# Altium footprint library T11.PcbLib: 36 footprints (part 2 of 3)
Each footprint in its own frame and in the unit in brackets; x right, y up, seen from the top. Pads: shape width x height; smd on the part's side, far side on the other; paste and mask are expansions set on the pad; w line width, h text height; cw(c..) or ccw(c..) is an arc to the next point about the centre after c.
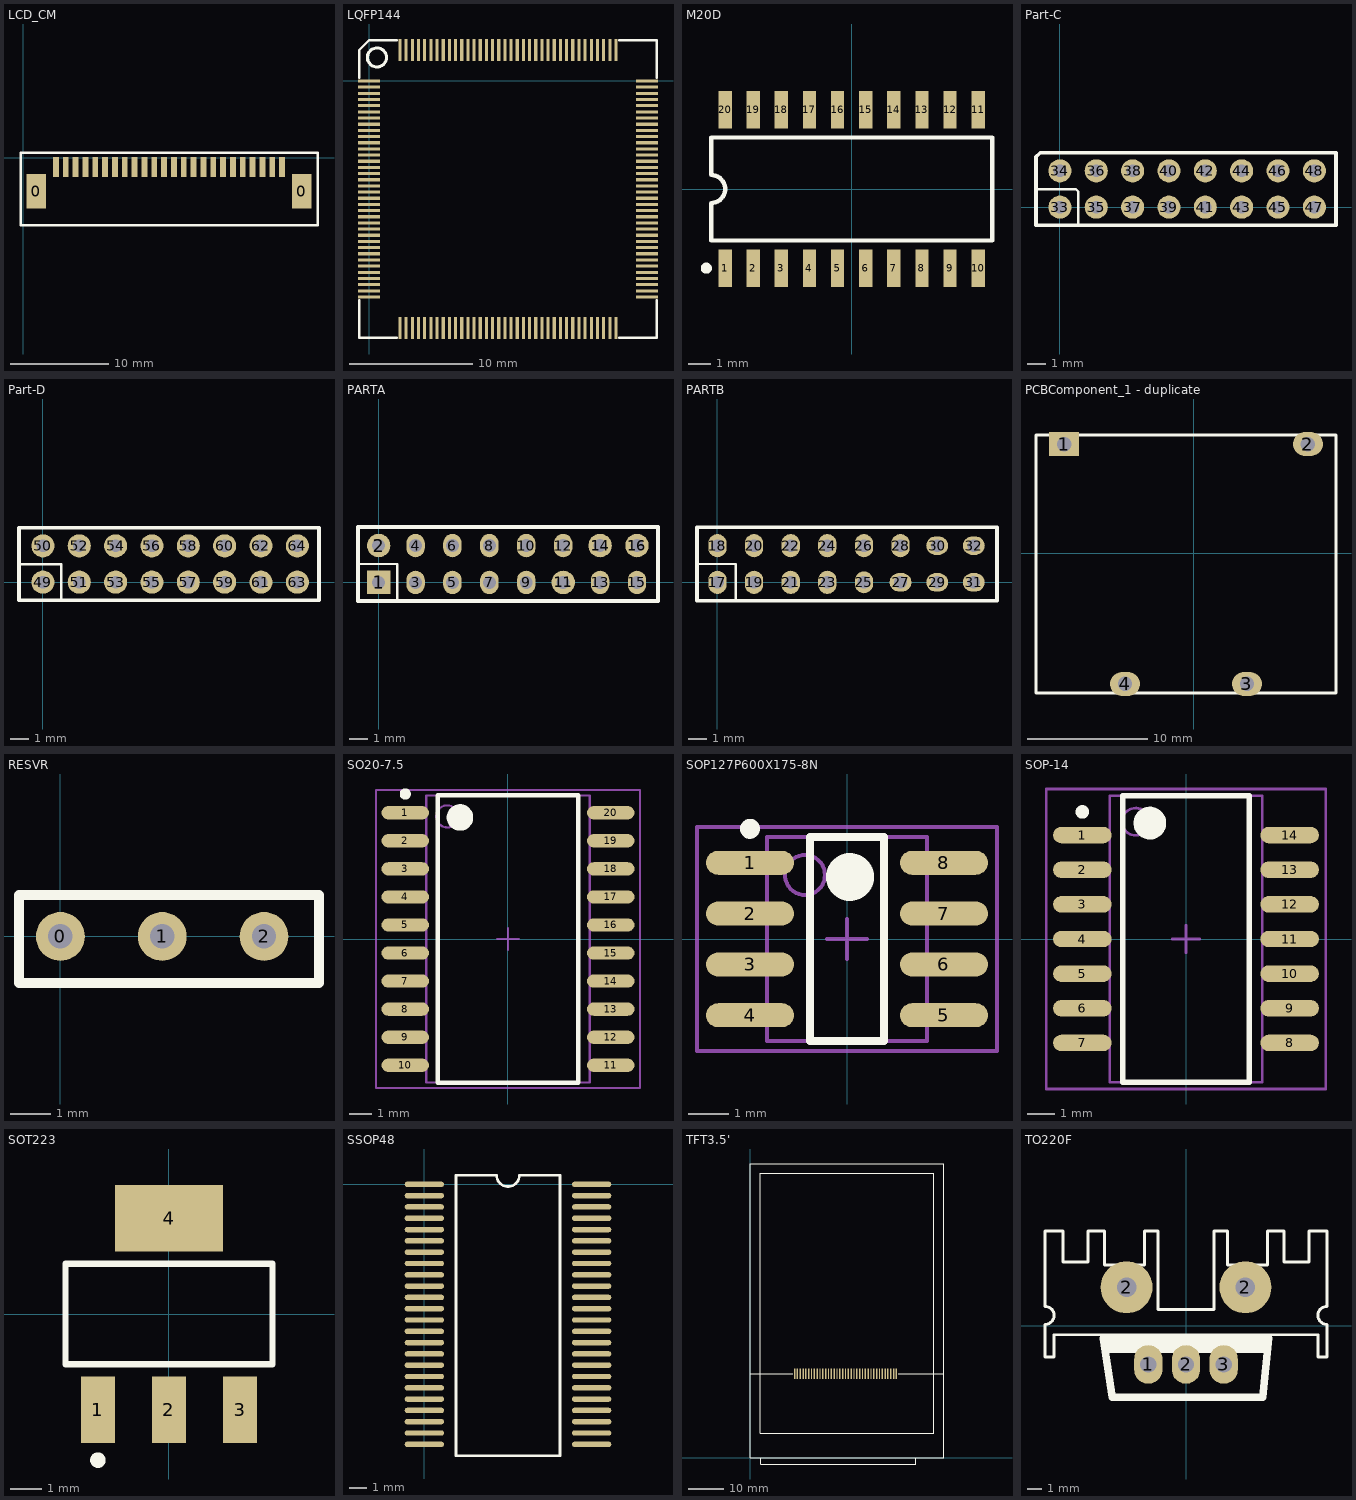
[diagram p1: the footprints below, top view; thin cyan lines are the x and y axes]

## LCD_CM [mm] "LCD_CM"
height 5.08
pads (26):
  rect 2x3.5 smd: 0(1.331,-3.41) 0(28.331,-3.41)
  rect 0.6x2 smd: 1(3.331,-0.957) 2(4.331,-0.957) 3(5.331,-0.957) 4(6.331,-0.957) 5(7.331,-0.957) 6(8.331,-0.957) 7(9.331,-0.957) 8(10.331,-0.957) 9(11.331,-0.957) 10(12.331,-0.957) 11(13.331,-0.957) 12(14.331,-0.957) 13(15.331,-0.957) 14(16.331,-0.957) 15(17.331,-0.957) 16(18.331,-0.957) 17(19.331,-0.957) 18(20.331,-0.957) 19(21.331,-0.957) 20(22.331,-0.957) 21(23.331,-0.957) 22(24.331,-0.957) 23(25.331,-0.957) 24(26.331,-0.957)
Top Overlay:
  lines w0.254: -0.254,-6.91 -0.254,0.508 29.972,0.508 29.972,-6.91 -0.254,-6.91

## LQFP144 [mm]
pads (144):
  rect 1.8x0.254 smd: 1(-0.009,0.001) 2(-0.009,-0.499) 3(-0.009,-0.999) 4(-0.009,-1.499) 5(-0.009,-1.999) 6(-0.009,-2.499) 7(-0.009,-2.999) 8(-0.009,-3.499) 9(-0.009,-3.999) 10(-0.009,-4.499) 11(-0.009,-4.999) 12(-0.009,-5.499) 13(-0.009,-5.999) 14(-0.009,-6.499) 15(-0.009,-6.999) 16(-0.009,-7.499) 17(-0.009,-7.999) 18(-0.009,-8.499) 19(-0.009,-8.999) 20(-0.009,-9.499) 21(-0.009,-9.999) 22(-0.009,-10.499) 23(-0.009,-10.999) 24(-0.009,-11.499) 25(-0.009,-11.999) 26(-0.009,-12.499) 27(-0.009,-12.999) 28(-0.009,-13.499) 29(-0.009,-13.999) 30(-0.009,-14.499) 31(-0.009,-14.999) 32(-0.009,-15.499) 33(-0.009,-15.999) 34(-0.009,-16.499) 35(-0.009,-16.999) 36(-0.009,-17.499) 73(22.491,-17.499) 74(22.491,-16.999) 75(22.491,-16.499) 76(22.491,-15.999) 77(22.491,-15.499) 78(22.491,-14.999) 79(22.491,-14.499) 80(22.491,-13.999) 81(22.491,-13.499) 82(22.491,-12.999) 83(22.491,-12.499) 84(22.491,-11.999) 85(22.491,-11.499) 86(22.491,-10.999) 87(22.491,-10.499) 88(22.491,-9.999) 89(22.491,-9.499) 90(22.491,-8.999) 91(22.491,-8.499) 92(22.491,-7.999) 93(22.491,-7.499) 94(22.491,-6.999) 95(22.491,-6.499) 96(22.491,-5.999) 97(22.491,-5.499) 98(22.491,-4.999) 99(22.491,-4.499) 100(22.491,-3.999) 101(22.491,-3.499) 102(22.491,-2.999) 103(22.491,-2.499) 104(22.491,-1.999) 105(22.491,-1.499) 106(22.491,-0.999) 107(22.491,-0.499) 108(22.491,0.001)
  rect 0.254x1.8 smd: 37(2.491,-19.999) 38(2.991,-19.999) 39(3.491,-19.999) 40(3.991,-19.999) 41(4.491,-19.999) 42(4.991,-19.999) 43(5.491,-19.999) 44(5.991,-19.999) 45(6.491,-19.999) 46(6.991,-19.999) 47(7.491,-19.999) 48(7.991,-19.999) 49(8.491,-19.999) 50(8.991,-19.999) 51(9.491,-19.999) 52(9.991,-19.999) 53(10.491,-19.999) 54(10.991,-19.999) 55(11.491,-19.999) 56(11.991,-19.999) 57(12.491,-19.999) 58(12.991,-19.999) 59(13.491,-19.999) 60(13.991,-19.999) 61(14.491,-19.999) 62(14.991,-19.999) 63(15.491,-19.999) 64(15.991,-19.999) 65(16.491,-19.999) 66(16.991,-19.999) 67(17.491,-19.999) 68(17.991,-19.999) 69(18.491,-19.999) 70(18.991,-19.999) 71(19.491,-19.999) 72(19.991,-19.999) 109(19.991,2.501) 110(19.491,2.501) 111(18.991,2.501) 112(18.491,2.501) 113(17.991,2.501) 114(17.491,2.501) 115(16.991,2.501) 116(16.491,2.501) 117(15.991,2.501) 118(15.491,2.501) 119(14.991,2.501) 120(14.491,2.501) 121(13.991,2.501) 122(13.491,2.501) 123(12.991,2.501) 124(12.491,2.501) 125(11.991,2.501) 126(11.491,2.501) 127(10.991,2.501) 128(10.491,2.501) 129(9.991,2.501) 130(9.491,2.501) 131(8.991,2.501) 132(8.491,2.501) 133(7.991,2.501) 134(7.491,2.501) 135(6.991,2.501) 136(6.491,2.501) 137(5.991,2.501) 138(5.491,2.501) 139(4.991,2.501) 140(4.491,2.501) 141(3.991,2.501) 142(3.491,2.501) 143(2.991,2.501) 144(2.491,2.501)
Top Overlay:
  circle w0.254: c0.624,1.905 r0.773
  lines w0.2: -0.809,-17.749 -0.809,-20.799 2.241,-20.799 ; -0.809,0.251 -0.809,2.501 -0.009,3.301 2.241,3.301 ; 20.241,-20.799 23.291,-20.799 23.291,-17.749 ; 20.241,3.301 23.291,3.301 23.291,0.251

## M20D [mm] "Small Outline; 20 Leads; Body Width 5.3 mm; Pitch 1.27 mm"
height 2.1
pads (20):
  rect 0.6x1.7 smd: 1(-5.715,-3.575) 2(-4.445,-3.575) 3(-3.175,-3.575) 4(-1.905,-3.575) 5(-0.635,-3.575) 6(0.635,-3.575) 7(1.905,-3.575) 8(3.175,-3.575) 9(4.445,-3.575) 10(5.715,-3.575) 11(5.715,3.575) 12(4.445,3.575) 13(3.175,3.575) 14(1.905,3.575) 15(0.635,3.575) 16(-0.635,3.575) 17(-1.905,3.575) 18(-3.175,3.575) 19(-4.445,3.575) 20(-5.715,3.575)
Top Overlay:
  circle w0.25: c-6.565,-3.575 r0.125
  lines w0.2: -6.35,-2.325 6.35,-2.325 6.35,2.325 -6.35,2.325 -6.35,0.635 cw(c-6.35,0) -6.35,-0.635 -6.35,-2.325

## Part-C [mm] "Part-C"
pads (16):
  round 1.27 hole 0.7: 33(0,0) 34(0,2) 35(2,0) 36(2,2) 37(4,0) 38(4,2) 39(6,0) 40(6,2) 41(8,0) 42(8,2) 43(10,0) 44(10,2) 45(12,0) 46(12,2) 47(14,0) 48(14,2)
Top Overlay:
  lines w0.127: -1.317,0.991 0.877,0.991 1.004,0.864 1.004,-0.873
  lines w0.2: -1.317,-1 -1.317,2.768 -1.085,3 15.193,3 15.193,-1 -1.317,-1

## Part-D [mm] "Part-D"
pads (16):
  round 1.27 hole 0.7: 49(0,0) 50(0,2) 51(2,0) 52(2,2) 53(4,0) 54(4,2) 55(6,0) 56(6,2) 57(8,0) 58(8,2) 59(10,0) 60(10,2) 61(12,0) 62(12,2) 63(14,0) 64(14,2)
Top Overlay:
  lines w0.127: -1.317,0.991 1.004,0.991 1.004,-0.873
  lines w0.2: -1.317,-1 -1.317,3 15.193,3 15.193,-1 -1.317,-1

## PARTA [mm] "PARTA"
pads (16):
  rect 1.27x1.27 hole 0.7: 1(0,0)
  round 1.27 hole 0.7: 2(0,2) 11(10,0) 14(12,2) 16(14,2)
  oval 1x1.27 hole 0.7: 3(2,0) 4(2,2) 5(4,0) 6(4,2) 7(6,0) 8(6,2) 9(8,0) 10(8,2) 12(10,2) 13(12,0) 15(14,0)
Top Overlay:
  lines w0.127: -1,1 1,1 1,-1
  lines w0.2: -1.118,-1 -1.118,3 15.138,3 15.138,-1 -1.118,-1

## PARTB [mm] "PARTB"
pads (16):
  oval 1x1.27 hole 0.7: 17(0,0) 18(0,2) 19(2,0) 20(2,2) 21(4,0) 22(4,2) 23(6,0) 24(6,2) 26(8,2) 28(10,2)
  oval 1x1.2 hole 0.7: 25(8,0)
  oval 1.2x1 hole 0.7: 27(10,0) 29(12,0) 30(12,2) 31(14,0) 32(14,2)
Top Overlay:
  lines w0.127: -0.998,1 1.002,1 1.002,-1
  lines w0.2: -1.116,-1 15.267,-1 15.267,3 -1.116,3 -1.116,-1

## PCBComponent_1 - duplicate [mm]
pads (4):
  rect 2.5x2 hole 1.2: 1(-10.795,9.106)
  oval 2.5x2 hole 1.2: 2(9.525,9.106) 3(4.445,-10.884) 4(-5.715,-10.884)
Top Overlay:
  lines w0.254: -13.135,-11.639 -13.135,9.861 11.865,9.861 11.865,-11.639 -13.135,-11.639

## RESVR [mm]
pads (3):
  round 1.2 hole 0.6: 0(0,0) 1(2.5,0) 2(5,0)
Top Overlay:
  lines w0.254: -1.016,-1.143 -1.016,1.016 -0.762,1.016 6.35,1.016 6.35,-1.143 -1.016,-1.143

## SO20-7.5 [mm] "SOIC, 20-Leads, Body 13.0x7.4mm (max), Pitch 1.27mm, IPC Medium Density"
height 2.65
pads (20):
  oval 2.15x0.6 smd: 1(-4.65,5.715) 2(-4.65,4.445) 3(-4.65,3.175) 4(-4.65,1.905) 5(-4.65,0.635) 6(-4.65,-0.635) 7(-4.65,-1.905) 8(-4.65,-3.175) 9(-4.65,-4.445) 10(-4.65,-5.715) 11(4.65,-5.715) 12(4.65,-4.445) 13(4.65,-3.175) 14(4.65,-1.905) 15(4.65,-0.635) 16(4.65,0.635) 17(4.65,1.905) 18(4.65,3.175) 19(4.65,4.445) 20(4.65,5.715)
Top Overlay:
  circle w0.25: c-4.65,6.565 r0.125
  circle w0.6: c-2.175,5.5 r0.3
  lines w0.2: -3.175,-6.5 -3.175,6.5 3.175,6.5 3.175,-6.5 -3.175,-6.5
Mechanical 13:
  circle w0.1: c-2.75,5.55 r0.5
  lines w0.1: -3.7,-6.5 -3.7,6.5 3.7,6.5 3.7,-6.5 -3.7,-6.5
Mechanical 15:
  lines w0.1: -0.5,0 0.5,0 ; 0,-0.5 0,0.5 ; -5.975,-6.75 -5.975,6.75 5.975,6.75 5.975,-6.75 -5.975,-6.75
3D body: height 2.65, standoff 0.2, extent -3.7,-6.5 3.7,6.5

## SOP127P600X175-8N [mm] "SOP, 8-Leads, Body 5.1x4.0mm (max), Pitch 1.27mm, IPC Medium Density"
height 1.75
pads (8):
  oval 2.2x0.6 smd: 1(-2.425,1.905) 2(-2.425,0.635) 3(-2.425,-0.635) 4(-2.425,-1.905) 5(2.425,-1.905) 6(2.425,-0.635) 7(2.425,0.635) 8(2.425,1.905)
Top Overlay:
  circle w0.25: c-2.425,2.755 r0.125
  circle w0.6: c0.075,1.55 r0.3
  lines w0.2: -0.925,-2.55 -0.925,2.55 0.925,2.55 0.925,-2.55 -0.925,-2.55
Mechanical 13:
  circle w0.1: c-1.05,1.6 r0.5
  lines w0.1: -2,-2.55 -2,2.55 2,2.55 2,-2.55 -2,-2.55
Mechanical 15:
  lines w0.1: -0.5,0 0.5,0 ; 0,-0.5 0,0.5 ; -3.75,-2.8 -3.75,2.8 3.75,2.8 3.75,-2.8 -3.75,-2.8
3D body: height 1.75, standoff 0.17, extent -2,-2.55 2,2.55

## SOP-14 [mm] "SOP, 14-Leads, Body 10.5x5.6mm (max), Pitch 1.27mm, IPC Medium Density"
height 2
pads (14):
  oval 2.15x0.6 smd: 1(-3.8,3.81) 2(-3.8,2.54) 3(-3.8,1.27) 4(-3.8,0) 5(-3.8,-1.27) 6(-3.8,-2.54) 7(-3.8,-3.81) 8(3.8,-3.81) 9(3.8,-2.54) 10(3.8,-1.27) 11(3.8,0) 12(3.8,1.27) 13(3.8,2.54) 14(3.8,3.81)
Top Overlay:
  circle w0.6: c-1.325,4.25 r0.3
  circle w0.25: c-3.8,4.66 r0.125
  lines w0.2: -2.325,-5.25 2.325,-5.25 2.325,5.25 -2.325,5.25 -2.325,-5.25
Mechanical 13:
  circle w0.1: c-1.85,4.3 r0.5
  lines w0.1: -2.8,-5.25 2.8,-5.25 2.8,5.25 -2.8,5.25 -2.8,-5.25
Mechanical 15:
  lines w0.1: -0.5,0 0.5,0 ; 0,-0.5 0,0.5 ; -5.125,-5.5 5.125,-5.5 5.125,5.5 -5.125,5.5 -5.125,-5.5
3D body: height 2, standoff 0.1, extent -2.8,-5.25 2.8,5.25

## SOT223 [mm] "SOT-223/SC-73; 4 Leads; Body 6.7 x 7.3 mm, inc. leads (LxW max)"
height 1.8
pads (4):
  rect 1.1x2.15 smd: 1(-2.3,-3.1) 2(0,-3.1) 3(2.3,-3.1)
  rect 3.5x2.15 smd: 4(0,3.1)
Top Overlay:
  circle w0.25: c-2.3,-4.725 r0.125
  lines w0.2: -3.35,-1.625 -3.35,1.625 3.35,1.625 3.35,-1.625 -3.35,-1.625

## SSOP48 [mil]
pads (48):
  oval 87x12 smd: 1(0,0) 2(0,-25) 3(0,-50) 4(0,-75) 5(0,-100) 6(0,-125) 7(0,-150) 8(0,-175) 9(0,-200) 10(0,-225) 11(0,-250) 12(0,-275) 13(0,-300) 14(0,-325) 15(0,-350) 16(0,-375) 17(0,-400) 18(0,-425) 19(0,-450) 20(0,-475) 21(0,-500) 22(0,-525) 23(0,-550) 24(0,-575) 25(370,-575) 26(370,-550) 27(370,-525) 28(370,-500) 29(370,-475) 30(370,-450) 31(370,-425) 32(370,-400) 33(370,-375) 34(370,-350) 35(370,-325) 36(370,-300) 37(370,-275) 38(370,-250) 39(370,-225) 40(370,-200) 41(370,-175) 42(370,-150) 43(370,-125) 44(370,-100) 45(370,-75) 46(370,-50) 47(370,-25) 48(370,0)
Top Overlay:
  lines w6: 70,-600 70,20 160,20 ccw(c185,20) 210,20 300,20 300,-600 70,-600

## TFT3.5' [mm]
pads (37):
  rect 0.4x3 smd: 1(12.526,23.749) 2(13.326,23.749) 3(14.126,23.749) 4(14.926,23.749) 5(15.726,23.749) 6(16.526,23.749) 7(17.326,23.749) 8(18.126,23.749) 9(18.926,23.749) 10(19.726,23.749) 11(20.526,23.749) 12(21.326,23.749) 13(22.126,23.749) 14(22.926,23.749) 15(23.726,23.749) 16(24.526,23.749) 17(25.326,23.749) 18(26.126,23.749) 19(26.926,23.749) 20(27.726,23.749) 21(28.526,23.749) 22(29.326,23.749) 23(30.126,23.749) 24(30.926,23.749) 25(31.726,23.749) 26(32.526,23.749) 27(33.326,23.749) 28(34.126,23.749) 29(34.926,23.749) 30(35.726,23.749) 31(36.526,23.749) 32(37.326,23.749) 33(38.126,23.749) 34(38.926,23.749) 35(39.726,23.749) 36(40.526,23.749) 37(41.326,23.749)
Top Overlay:
  lines w0.203: 0,23.7 12.065,23.7 ; 3,0 3,-1.8 46.736,-1.8 46.736,0 ; 41.783,23.7 54.651,23.7 ; 0,0 54.7,0 54.7,83 0,83 0,0 ; 2.85,6.951 51.85,6.951 51.85,80.391 2.85,80.391 2.85,6.951

## TO220F [mm]
pads (5):
  oval 1.905x2.6 hole 1.1: 1(-2.54,-2.6) 2(0,-2.6) 3(2.54,-2.6)
  round 3.5 hole 1.3: 2(-4,2.6) 2(4,2.6)
Top Overlay:
  lines w0.2: -9.5,1.3 -9.5,6.4 -8.3,6.4 -8.3,4.3 -6.6,4.3 -6.6,6.4 -5.5,6.4 -5.5,4.1 -2.8,4.1 -2.8,6.4 -1.9,6.4 -1.9,1.1 0,1.1 1.9,1.1 1.9,6.4 2.8,6.4 2.8,4.1 5.5,4.1 5.5,6.4 6.6,6.4 6.6,4.3 8.3,4.3 8.3,6.4 9.5,6.4 9.5,1.3 ; -9.5,1.317 cw(c-9.5,0.708) -9.5,0.1 -9.5,-2.1 -9.1,-2.1 -8.9,-2.1 -8.9,-0.6 8.9,-0.6 8.9,-2.1 9.5,-2.1 9.5,0.1 cw(c9.5,0.708) 9.5,1.317
  lines w0.508: -5.359,-1.559 5.309,-1.559 ; -5.334,-1.33 5.334,-1.33 ; -5.588,-0.822 5.588,-0.822 5.18,-4.802 -4.98,-4.802 -5.588,-0.822